# EAGLE library part 16F1509_QFP (library icnh3)
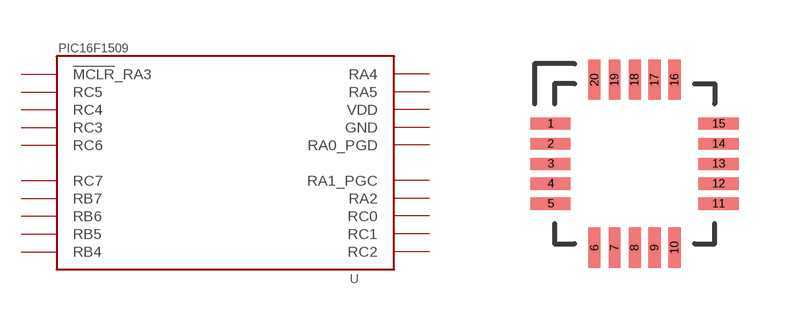
[diagram p15: symbol with the pads of QFN20; footprint QFN20]

Designator prefix U

## 16F1509_QFP  [QFN20]
1  !MCLR!_RA3
2  RC5
3  RC4
4  RC3
5  RC6
6  RC7
7  RB7
8  RB6
9  RB5
10  RB4
11  RC2
12  RC1
13  RC0
14  RA2
15  RA1_PGC
16  RA0_PGD
17  GND  pwr
18  VDD  pwr
19  RA5
20  RA4

## Footprint QFN20 (pad centres in mm)
smd 1 x 0.3: 1 -2.1,1; 2 -2.1,0.5; 3 -2.1,0; 4 -2.1,-0.5; 5 -2.1,-1; 11 2.1,-1; 12 2.1,-0.5; 13 2.1,0; 14 2.1,0.5; 15 2.1,1
smd 0.3 x 1: 6 -1,-2.1; 7 -0.5,-2.1; 8 0,-2.1; 9 0.5,-2.1; 10 1,-2.1; 16 1,2.1; 17 0.5,2.1; 18 0,2.1; 19 -0.5,2.1; 20 -1,2.1